# Altium schematic symbol library EC25-A.SchLib: 1 symbol
Pins are listed as number, name and electrical type; pins without a type are passive.

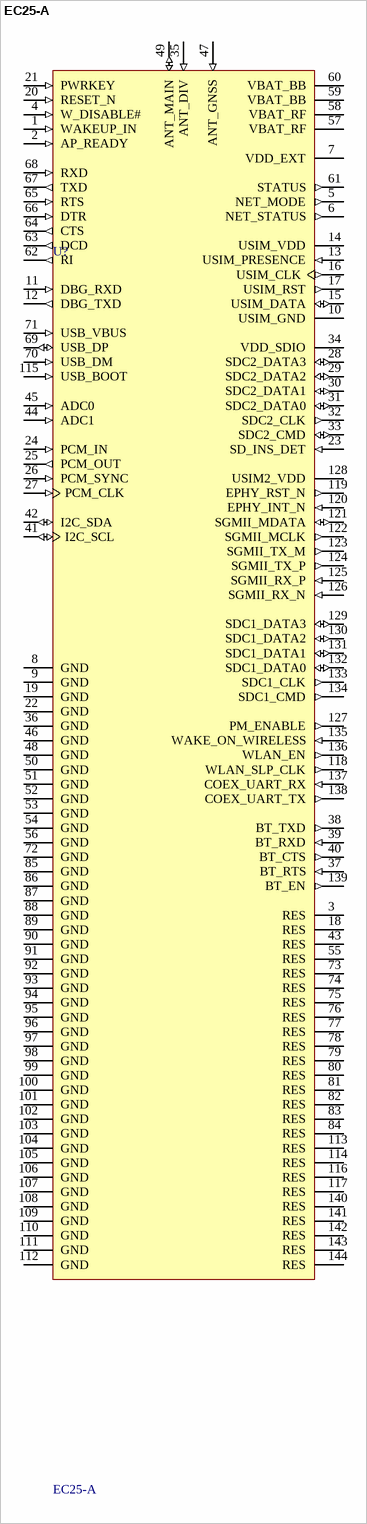
[diagram p0: symbol EC25-A]

## EC25-A
designator U?
pins: 1 WAKEUP_IN (in), 2 AP_READY (in), 3 RES (power), 4 W_DISABLE# (in), 5 NET_MODE (out), 6 NET_STATUS (out), 7 VDD_EXT (power), 8 GND (power), 9 GND (power), 10 USIM_GND (power), 11 DBG_RXD (in), 12 DBG_TXD (out), 13 USIM_PRESENCE (in), 14 USIM_VDD (power), 15 USIM_DATA (io), 16 USIM_CLK (out), 17 USIM_RST (out), 18 RES (power), 19 GND (power), 20 RESET_N (in), 21 PWRKEY (in), 22 GND (power), 23 SD_INS_DET (in), 24 PCM_IN (in), 25 PCM_OUT (out), 26 PCM_SYNC (in), 27 PCM_CLK (in), 28 SDC2_DATA3 (io), 29 SDC2_DATA2 (io), 30 SDC2_DATA1 (io), 31 SDC2_DATA0 (io), 32 SDC2_CLK (out), 33 SDC2_CMD (io), 34 VDD_SDIO (power), 35 ANT_DIV (in), 36 GND (power), 37 BT_RTS (in), 38 BT_TXD (out), 39 BT_RXD (in), 40 BT_CTS (out), 41 I2C_SCL (io), 42 I2C_SDA (io), 43 RES (power), 44 ADC1 (in), 45 ADC0 (in), 46 GND (power), 47 ANT_GNSS (in), 48 GND (power), 49 ANT_MAIN (io), 50 GND (power), 51 GND (power), 52 GND (power), 53 GND (power), 54 GND (power), 55 RES (power), 56 GND (power), 57 VBAT_RF (power), 58 VBAT_RF (power), 59 VBAT_BB (power), 60 VBAT_BB (power), 61 STATUS (out), 62 RI (out), 63 DCD (out), 64 CTS (out), 65 RTS (in), 66 DTR (in), 67 TXD (out), 68 RXD (in), 69 USB_DP (io), 70 USB_DM (in), 71 USB_VBUS (in), 72 GND (power), 73 RES (power), 74 RES (power), 75 RES (power), 76 RES (power), 77 RES (power), 78 RES (power), 79 RES (power), 80 RES (power), 81 RES (power), 82 RES (power), 83 RES (power), 84 RES (power), 85 GND (power), 86 GND (power), 87 GND (power), 88 GND (power), 89 GND (power), 90 GND (power), 91 GND (power), 92 GND (power), 93 GND (power), 94 GND (power), 95 GND (power), 96 GND (power), 97 GND (power), 98 GND (power), 99 GND (power), 100 GND (power), 101 GND (power), 102 GND (power), 103 GND (power), 104 GND (power), 105 GND (power), 106 GND (power), 107 GND (power), 108 GND (power), 109 GND (power), 110 GND (power), 111 GND (power), 112 GND (power), 113 RES (power), 114 RES (power), 115 USB_BOOT (in), 116 RES (power), 117 RES (power), 118 WLAN_SLP_CLK (out), 119 EPHY_RST_N (out), 120 EPHY_INT_N (in), 121 SGMII_MDATA (io), 122 SGMII_MCLK (out), 123 SGMII_TX_M (out), 124 SGMII_TX_P (out), 125 SGMII_RX_P (in), 126 SGMII_RX_N (in), 127 PM_ENABLE (out), 128 USIM2_VDD (power), 129 SDC1_DATA3 (io), 130 SDC1_DATA2 (io), 131 SDC1_DATA1 (io), 132 SDC1_DATA0 (io), 133 SDC1_CLK (out), 134 SDC1_CMD (out), 135 WAKE_ON_WIRELESS (in), 136 WLAN_EN (out), 137 COEX_UART_RX (in), 138 COEX_UART_TX (out), 139 BT_EN (out), 140 RES (power), 141 RES (power), 142 RES (power), 143 RES (power), 144 RES (power)